# Altium footprint library KF7620.PcbLib: 14 footprints
Each footprint in its own frame and in the unit in brackets; x right, y up, seen from the top. Pads: shape width x height; smd on the part's side, far side on the other; paste and mask are expansions set on the pad; w line width, h text height; cw(c..) or ccw(c..) is an arc to the next point about the centre after c.
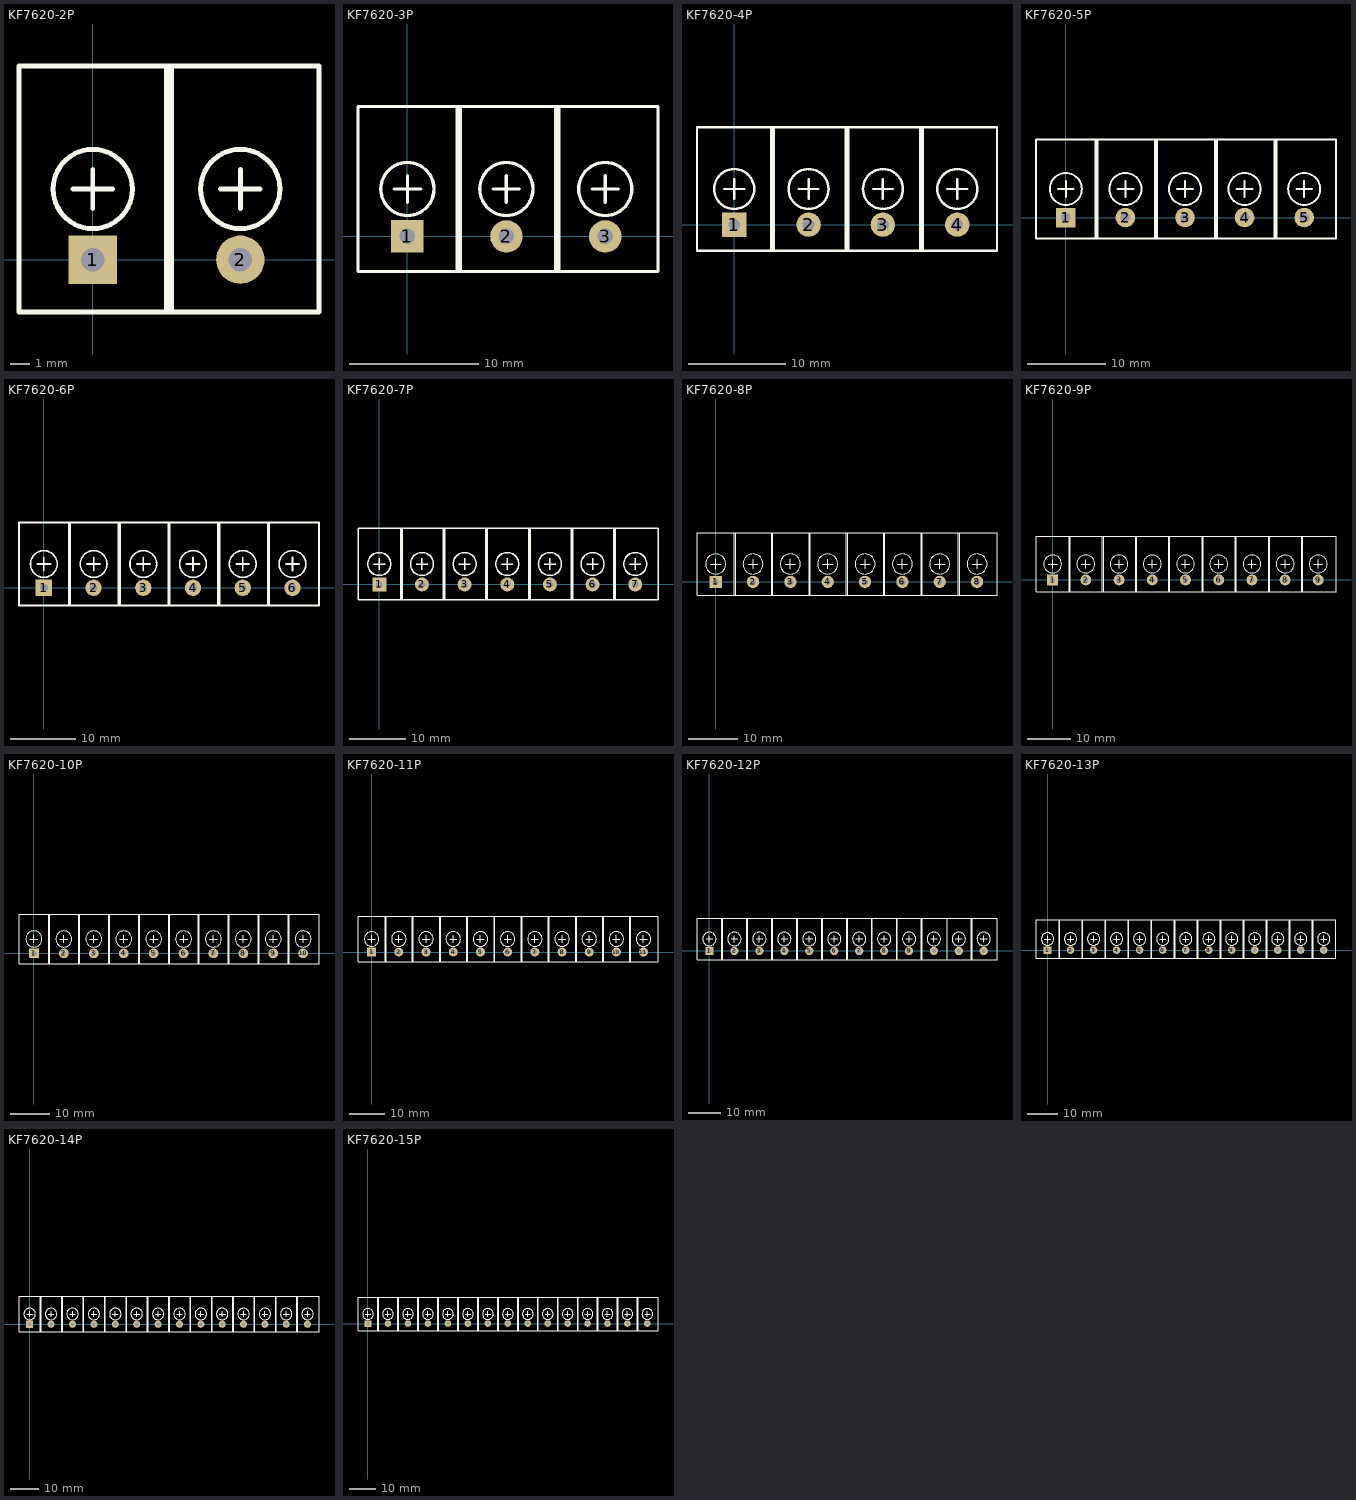
[diagram p0: the footprints below, top view; thin cyan lines are the x and y axes]

## KF7620-2P [mm] "15.2*12*12mm(长宽高)"
pads (2):
  rect 2.5x2.5 hole 1.2: 1(0,0)
  round 2.5 hole 1.2: 2(7.62,0)
Top Overlay:
  circle w0.254: c7.62,3.65 r2.048
  circle w0.254: c0,3.65 r2.048
  lines w0.254: -1.016,3.65 1.016,3.65 ; 0,2.634 0,4.666 ; 3.81,-2.7 3.81,10 ; 4.064,10 4.064,-2.7 4.318,-2.7 ; 6.604,3.65 8.636,3.65 ; 7.62,2.634 7.62,4.666 ; -3.81,-2.7 -3.81,10 11.684,10 11.684,-2.7 -3.81,-2.7
3D body "KF7620.STEP": height 12.45, standoff -3.45, extent -3.81,-2.517 4.51,9.883
3D body "KF7620.STEP": height 12.45, standoff -3.45, extent 3.81,-2.517 12.13,9.883

## KF7620-3P [mm] "22.8*12*12mm(长宽高)"
pads (3):
  rect 2.5x2.5 hole 1.2: 1(0,0)
  round 2.5 hole 1.2: 2(7.62,0) 3(15.24,0)
Top Overlay:
  circle w0.254: c0,3.65 r2.048
  circle w0.254: c7.62,3.65 r2.048
  circle w0.254: c15.24,3.65 r2.048
  lines w0.254: -1.016,3.65 1.016,3.65 ; 0,2.634 0,4.666 ; 3.81,-2.7 3.81,10 ; 4.064,10 4.064,-2.7 4.318,-2.7 ; 6.604,3.65 8.636,3.65 ; 7.62,2.634 7.62,4.666 ; 11.43,-2.7 11.43,10 ; 14.224,3.65 16.256,3.65 ; 15.24,2.634 15.24,4.666 ; 11.684,-2.7 11.684,10 ; 11.684,-2.7 -3.81,-2.7 -3.81,10 11.684,10 ; 11.684,-2.7 19.304,-2.7 19.304,10 11.684,10
3D body "KF7620.STEP": height 12.45, standoff -3.45, extent 11.43,-2.517 19.75,9.883
3D body "KF7620.STEP": height 12.45, standoff -3.45, extent 3.81,-2.517 12.13,9.883
3D body "KF7620.STEP": height 12.45, standoff -3.45, extent -3.81,-2.517 4.51,9.883

## KF7620-4P [mm] "30.5*12*12mm(长宽高)"
pads (4):
  rect 2.5x2.5 hole 1.2: 1(0,0)
  round 2.5 hole 1.2: 2(7.62,0) 3(15.24,0) 4(22.86,0)
Top Overlay:
  circle w0.254: c22.86,3.65 r2.048
  circle w0.254: c15.24,3.65 r2.048
  circle w0.254: c0,3.65 r2.048
  circle w0.254: c7.62,3.65 r2.048
  lines w0.254: -1.016,3.65 1.016,3.65 ; 0,2.634 0,4.666 ; 3.81,-2.7 3.81,10 ; 4.064,10 4.064,-2.7 4.318,-2.7 ; 6.604,3.65 8.636,3.65 ; 7.62,2.634 7.62,4.666 ; 14.224,3.65 16.256,3.65 ; 15.24,2.634 15.24,4.666 ; 19.05,-2.7 19.05,10 ; 19.304,10 19.304,-2.7 19.558,-2.7 ; 21.844,3.65 23.876,3.65 ; 22.86,2.634 22.86,4.666 ; -3.81,-2.7 11.684,-2.7 11.684,10 -3.81,10 -3.81,-2.7 ; 11.43,-2.7 11.43,10 26.924,10 26.924,-2.7 11.43,-2.7
3D body "KF7620.STEP": height 12.45, standoff -3.45, extent 19.05,-2.517 27.37,9.883
3D body "KF7620.STEP": height 12.45, standoff -3.45, extent 11.43,-2.517 19.75,9.883
3D body "KF7620.STEP": height 12.45, standoff -3.45, extent 3.81,-2.517 12.13,9.883
3D body "KF7620.STEP": height 12.45, standoff -3.45, extent -3.81,-2.517 4.51,9.883

## KF7620-5P [mm] "38.1*12*12mm(长宽高)"
pads (5):
  rect 2.5x2.5 hole 1.2: 1(0,0)
  round 2.5 hole 1.2: 2(7.62,0) 3(15.24,0) 4(22.86,0) 5(30.48,0)
Top Overlay:
  circle w0.254: c22.86,3.65 r2.048
  circle w0.254: c30.48,3.65 r2.048
  circle w0.254: c0,3.65 r2.048
  circle w0.254: c7.62,3.65 r2.048
  circle w0.254: c15.24,3.65 r2.048
  lines w0.254: -1.016,3.65 1.016,3.65 ; 0,2.634 0,4.666 ; 3.81,-2.7 3.81,10 ; 4.064,10 4.064,-2.7 4.318,-2.7 ; 6.604,3.65 8.636,3.65 ; 7.62,2.634 7.62,4.666 ; 11.43,-2.7 11.43,10 ; 14.224,3.65 16.256,3.65 ; 15.24,2.634 15.24,4.666 ; 21.844,3.65 23.876,3.65 ; 22.86,2.634 22.86,4.666 ; 26.67,-2.7 26.67,10 ; 26.924,10 26.924,-2.7 27.178,-2.7 ; 29.464,3.65 31.496,3.65 ; 30.48,2.634 30.48,4.666 ; 11.684,-2.7 11.684,10 ; 11.684,-2.7 -3.81,-2.7 -3.81,10 11.684,10 ; 11.684,-2.7 19.304,-2.7 19.304,10 11.684,10 ; 19.05,-2.7 34.544,-2.7 34.544,10 19.05,10 19.05,-2.7
3D body "KF7620.STEP": height 12.45, standoff -3.45, extent 19.05,-2.517 27.37,9.883
3D body "KF7620.STEP": height 12.45, standoff -3.45, extent 26.67,-2.517 34.99,9.883
3D body "KF7620.STEP": height 12.45, standoff -3.45, extent 11.43,-2.517 19.75,9.883
3D body "KF7620.STEP": height 12.45, standoff -3.45, extent 3.81,-2.517 12.13,9.883
3D body "KF7620.STEP": height 12.45, standoff -3.45, extent -3.81,-2.517 4.51,9.883

## KF7620-6P [mm] "45.7*12*12mm(长宽高)"
pads (6):
  rect 2.5x2.5 hole 1.2: 1(0,0)
  round 2.5 hole 1.2: 2(7.62,0) 3(15.24,0) 4(22.86,0) 5(30.48,0) 6(38.1,0)
Top Overlay:
  circle w0.254: c30.48,3.65 r2.048
  circle w0.254: c38.1,3.65 r2.048
  circle w0.254: c7.62,3.65 r2.048
  circle w0.254: c0,3.65 r2.048
  circle w0.254: c15.24,3.65 r2.048
  circle w0.254: c22.86,3.65 r2.048
  lines w0.254: -1.016,3.65 1.016,3.65 ; 0,2.634 0,4.666 ; 3.81,-2.7 3.81,10 ; 4.064,10 4.064,-2.7 4.318,-2.7 ; 6.604,3.65 8.636,3.65 ; 7.62,2.634 7.62,4.666 ; 14.224,3.65 16.256,3.65 ; 15.24,2.634 15.24,4.666 ; 19.05,-2.7 19.05,10 ; 19.304,10 19.304,-2.7 19.558,-2.7 ; 21.844,3.65 23.876,3.65 ; 22.86,2.634 22.86,4.666 ; 29.464,3.65 31.496,3.65 ; 30.48,2.634 30.48,4.666 ; 34.29,-2.7 34.29,10 ; 34.544,10 34.544,-2.7 34.798,-2.7 ; 37.084,3.65 39.116,3.65 ; 38.1,2.634 38.1,4.666 ; -3.81,-2.7 -3.81,10 11.684,10 11.684,-2.7 -3.81,-2.7 ; 11.43,-2.7 26.924,-2.7 26.924,10 11.43,10 11.43,-2.7 ; 26.67,-2.7 42.164,-2.7 42.164,10 26.67,10 26.67,-2.7
3D body "KF7620.STEP": height 12.45, standoff -3.45, extent 19.05,-2.517 27.37,9.883
3D body "KF7620.STEP": height 12.45, standoff -3.45, extent 26.67,-2.517 34.99,9.883
3D body "KF7620.STEP": height 12.45, standoff -3.45, extent 34.29,-2.517 42.61,9.883
3D body "KF7620.STEP": height 12.45, standoff -3.45, extent 11.43,-2.517 19.75,9.883
3D body "KF7620.STEP": height 12.45, standoff -3.45, extent 3.81,-2.517 12.13,9.883
3D body "KF7620.STEP": height 12.45, standoff -3.45, extent -3.81,-2.517 4.51,9.883

## KF7620-7P [mm] "45.7*12*12mm(长宽高)"
pads (7):
  rect 2.5x2.5 hole 1.2: 1(0,0)
  round 2.5 hole 1.2: 2(7.62,0) 3(15.24,0) 4(22.86,0) 5(30.48,0) 6(38.1,0) 7(45.72,0)
Top Overlay:
  circle w0.254: c45.72,3.65 r2.048
  circle w0.254: c22.86,3.65 r2.048
  circle w0.254: c15.24,3.65 r2.048
  circle w0.254: c0,3.65 r2.048
  circle w0.254: c7.62,3.65 r2.048
  circle w0.254: c38.1,3.65 r2.048
  circle w0.254: c30.48,3.65 r2.048
  lines w0.254: -1.016,3.65 1.016,3.65 ; 0,2.634 0,4.666 ; 3.81,-2.7 3.81,10 ; 4.064,10 4.064,-2.7 4.318,-2.7 ; 6.604,3.65 8.636,3.65 ; 7.62,2.634 7.62,4.666 ; 14.224,3.65 16.256,3.65 ; 15.24,2.634 15.24,4.666 ; 19.05,-2.7 19.05,10 ; 19.304,10 19.304,-2.7 19.558,-2.7 ; 21.844,3.65 23.876,3.65 ; 22.86,2.634 22.86,4.666 ; 29.464,3.65 31.496,3.65 ; 30.48,2.634 30.48,4.666 ; 34.29,-2.7 34.29,10 ; 34.544,10 34.544,-2.7 34.798,-2.7 ; 37.084,3.65 39.116,3.65 ; 38.1,2.634 38.1,4.666 ; 41.91,-2.7 41.91,10 ; 44.704,3.65 46.736,3.65 ; 45.72,2.634 45.72,4.666 ; 42.164,-2.7 49.784,-2.7 49.784,10 42.164,10 ; 42.164,-2.7 42.164,10 ; 42.164,-2.7 42.164,10 ; 42.164,-2.7 26.67,-2.7 26.67,10 42.164,10 ; -3.81,-2.7 11.684,-2.7 11.684,10 -3.81,10 -3.81,-2.7 ; 11.43,-2.7 11.43,10 26.924,10 26.924,-2.7 11.43,-2.7
3D body "KF7620.STEP": height 12.45, standoff -3.45, extent 41.91,-2.517 50.23,9.883
3D body "KF7620.STEP": height 12.45, standoff -3.45, extent 19.05,-2.517 27.37,9.883
3D body "KF7620.STEP": height 12.45, standoff -3.45, extent 26.67,-2.517 34.99,9.883
3D body "KF7620.STEP": height 12.45, standoff -3.45, extent 34.29,-2.517 42.61,9.883
3D body "KF7620.STEP": height 12.45, standoff -3.45, extent 11.43,-2.517 19.75,9.883
3D body "KF7620.STEP": height 12.45, standoff -3.45, extent 3.81,-2.517 12.13,9.883
3D body "KF7620.STEP": height 12.45, standoff -3.45, extent -3.81,-2.517 4.51,9.883

## KF7620-8P [mm] "61*12*12mm(长宽高)"
pads (8):
  rect 2.5x2.5 hole 1.2: 1(0,0)
  round 2.5 hole 1.2: 2(7.62,0) 3(15.24,0) 4(22.86,0) 5(30.48,0) 6(38.1,0) 7(45.72,0) 8(53.34,0)
Top Overlay:
  circle w0.254: c22.86,3.65 r2.048
  circle w0.254: c15.24,3.65 r2.048
  circle w0.254: c0,3.65 r2.048
  circle w0.254: c7.62,3.65 r2.048
  circle w0.254: c38.1,3.65 r2.048
  circle w0.254: c30.48,3.65 r2.048
  circle w0.254: c45.72,3.65 r2.048
  circle w0.254: c53.34,3.65 r2.048
  lines w0.254: -1.016,3.65 1.016,3.65 ; 0,2.634 0,4.666 ; 3.81,-2.7 3.81,10 ; 4.064,10 4.064,-2.7 4.318,-2.7 ; 6.604,3.65 8.636,3.65 ; 7.62,2.634 7.62,4.666 ; 14.224,3.65 16.256,3.65 ; 15.24,2.634 15.24,4.666 ; 19.05,-2.7 19.05,10 ; 19.304,10 19.304,-2.7 19.558,-2.7 ; 21.844,3.65 23.876,3.65 ; 22.86,2.634 22.86,4.666 ; 29.464,3.65 31.496,3.65 ; 30.48,2.634 30.48,4.666 ; 34.29,-2.7 34.29,10 ; 34.544,10 34.544,-2.7 34.798,-2.7 ; 37.084,3.65 39.116,3.65 ; 38.1,2.634 38.1,4.666 ; 44.704,3.65 46.736,3.65 ; 45.72,2.634 45.72,4.666 ; 49.53,-2.7 49.53,10 ; 49.784,10 49.784,-2.7 50.038,-2.7 ; 52.324,3.65 54.356,3.65 ; 53.34,2.634 53.34,4.666 ; -3.81,-2.7 11.684,-2.7 11.684,10 -3.81,10 -3.81,-2.7 ; 11.43,-2.7 11.43,10 26.924,10 26.924,-2.7 11.43,-2.7 ; 26.67,-2.7 26.67,10 42.164,10 42.164,-2.7 26.67,-2.7 ; 41.91,-2.7 57.404,-2.7 57.404,10 41.91,10 41.91,-2.7
3D body "KF7620.STEP": height 12.45, standoff -3.45, extent 41.91,-2.517 50.23,9.883
3D body "KF7620.STEP": height 12.45, standoff -3.45, extent 49.53,-2.517 57.85,9.883
3D body "KF7620.STEP": height 12.45, standoff -3.45, extent 19.05,-2.517 27.37,9.883
3D body "KF7620.STEP": height 12.45, standoff -3.45, extent 26.67,-2.517 34.99,9.883
3D body "KF7620.STEP": height 12.45, standoff -3.45, extent 34.29,-2.517 42.61,9.883
3D body "KF7620.STEP": height 12.45, standoff -3.45, extent 11.43,-2.517 19.75,9.883
3D body "KF7620.STEP": height 12.45, standoff -3.45, extent 3.81,-2.517 12.13,9.883
3D body "KF7620.STEP": height 12.45, standoff -3.45, extent -3.81,-2.517 4.51,9.883

## KF7620-9P [mm] "61*12*12mm(长宽高)"
pads (9):
  rect 2.5x2.5 hole 1.2: 1(0,0)
  round 2.5 hole 1.2: 2(7.62,0) 3(15.24,0) 4(22.86,0) 5(30.48,0) 6(38.1,0) 7(45.72,0) 8(53.34,0) 9(60.94,0)
Top Overlay:
  circle w0.254: c22.86,3.65 r2.048
  circle w0.254: c15.24,3.65 r2.048
  circle w0.254: c0,3.65 r2.048
  circle w0.254: c7.62,3.65 r2.048
  circle w0.254: c38.1,3.65 r2.048
  circle w0.254: c30.48,3.65 r2.048
  circle w0.254: c45.72,3.65 r2.048
  circle w0.254: c53.34,3.65 r2.048
  circle w0.254: c60.94,3.65 r2.048
  lines w0.254: -1.016,3.65 1.016,3.65 ; 0,2.634 0,4.666 ; 3.81,-2.7 3.81,10 ; 4.064,10 4.064,-2.7 4.318,-2.7 ; 6.604,3.65 8.636,3.65 ; 7.62,2.634 7.62,4.666 ; 14.224,3.65 16.256,3.65 ; 15.24,2.634 15.24,4.666 ; 19.05,-2.7 19.05,10 ; 19.304,10 19.304,-2.7 19.558,-2.7 ; 21.844,3.65 23.876,3.65 ; 22.86,2.634 22.86,4.666 ; 29.464,3.65 31.496,3.65 ; 30.48,2.634 30.48,4.666 ; 34.29,-2.7 34.29,10 ; 34.544,10 34.544,-2.7 34.798,-2.7 ; 37.084,3.65 39.116,3.65 ; 38.1,2.634 38.1,4.666 ; 44.704,3.65 46.736,3.65 ; 45.72,2.634 45.72,4.666 ; 49.53,-2.7 49.53,10 ; 49.784,10 49.784,-2.7 50.038,-2.7 ; 52.324,3.65 54.356,3.65 ; 53.34,2.634 53.34,4.666 ; 57.13,-2.7 57.13,10 ; 57.638,-2.7 57.384,-2.7 ; 59.924,3.65 61.956,3.65 ; 60.94,2.634 60.94,4.666 ; 57.384,-2.7 57.384,10 65.004,10 65.004,-2.7 57.384,-2.7 ; 57.404,-2.7 57.404,10 ; 57.404,-2.7 41.91,-2.7 41.91,10 57.404,10 ; 57.404,-2.7 57.404,10 ; 57.404,-2.7 57.404,10 ; -3.81,-2.7 11.684,-2.7 11.684,10 -3.81,10 -3.81,-2.7 ; 11.43,-2.7 11.43,10 26.924,10 26.924,-2.7 11.43,-2.7 ; 26.67,-2.7 26.67,10 42.164,10 42.164,-2.7 26.67,-2.7
3D body "KF7620.STEP": height 12.45, standoff -3.45, extent 41.91,-2.517 50.23,9.883
3D body "KF7620.STEP": height 12.45, standoff -3.45, extent 49.53,-2.517 57.85,9.883
3D body "KF7620.STEP": height 12.45, standoff -3.45, extent 57.15,-2.517 65.47,9.883
3D body "KF7620.STEP": height 12.45, standoff -3.45, extent 19.05,-2.517 27.37,9.883
3D body "KF7620.STEP": height 12.45, standoff -3.45, extent 26.67,-2.517 34.99,9.883
3D body "KF7620.STEP": height 12.45, standoff -3.45, extent 34.29,-2.517 42.61,9.883
3D body "KF7620.STEP": height 12.45, standoff -3.45, extent 11.43,-2.517 19.75,9.883
3D body "KF7620.STEP": height 12.45, standoff -3.45, extent 3.81,-2.517 12.13,9.883
3D body "KF7620.STEP": height 12.45, standoff -3.45, extent -3.81,-2.517 4.51,9.883

## KF7620-10P [mm] "61*12*12mm(长宽高)"
pads (10):
  rect 2.5x2.5 hole 1.2: 1(0,0)
  round 2.5 hole 1.2: 2(7.62,0) 3(15.24,0) 4(22.86,0) 5(30.48,0) 6(38.1,0) 7(45.72,0) 8(53.34,0) 9(60.94,0) 10(68.54,0)
Top Overlay:
  circle w0.254: c60.94,3.65 r2.048
  circle w0.254: c53.34,3.65 r2.048
  circle w0.254: c45.72,3.65 r2.048
  circle w0.254: c30.48,3.65 r2.048
  circle w0.254: c38.1,3.65 r2.048
  circle w0.254: c7.62,3.65 r2.048
  circle w0.254: c0,3.65 r2.048
  circle w0.254: c15.24,3.65 r2.048
  circle w0.254: c22.86,3.65 r2.048
  circle w0.254: c68.54,3.65 r2.048
  lines w0.254: -1.016,3.65 1.016,3.65 ; 0,2.634 0,4.666 ; 3.81,-2.7 3.81,10 ; 4.064,10 4.064,-2.7 4.318,-2.7 ; 6.604,3.65 8.636,3.65 ; 7.62,2.634 7.62,4.666 ; 14.224,3.65 16.256,3.65 ; 15.24,2.634 15.24,4.666 ; 19.05,-2.7 19.05,10 ; 19.304,10 19.304,-2.7 19.558,-2.7 ; 21.844,3.65 23.876,3.65 ; 22.86,2.634 22.86,4.666 ; 29.464,3.65 31.496,3.65 ; 30.48,2.634 30.48,4.666 ; 34.29,-2.7 34.29,10 ; 34.544,10 34.544,-2.7 34.798,-2.7 ; 37.084,3.65 39.116,3.65 ; 38.1,2.634 38.1,4.666 ; 44.704,3.65 46.736,3.65 ; 45.72,2.634 45.72,4.666 ; 49.53,-2.7 49.53,10 ; 49.784,10 49.784,-2.7 50.038,-2.7 ; 52.324,3.65 54.356,3.65 ; 53.34,2.634 53.34,4.666 ; 57.13,-2.7 57.13,10 ; 57.638,-2.7 57.384,-2.7 ; 59.924,3.65 61.956,3.65 ; 60.94,2.634 60.94,4.666 ; 64.73,-2.7 64.73,10 ; 65.238,-2.7 64.984,-2.7 ; 67.524,3.65 69.556,3.65 ; 68.54,2.634 68.54,4.666 ; 57.384,-2.7 65.004,-2.7 ; 57.384,-2.7 57.384,10 65.004,10 ; 57.404,-2.7 57.404,10 ; 57.404,-2.7 57.404,10 ; 57.404,-2.7 41.91,-2.7 41.91,10 57.404,10 ; 57.404,-2.7 57.404,10 ; 64.984,-2.7 64.984,10 72.604,10 72.604,-2.7 64.984,-2.7 ; 65.004,-2.7 65.004,10 ; 65.004,-2.7 65.004,10 ; 65.004,-2.7 65.004,10 ; 65.004,-2.7 65.004,10 ; -3.81,-2.7 -3.81,10 11.684,10 11.684,-2.7 -3.81,-2.7 ; 11.43,-2.7 26.924,-2.7 26.924,10 11.43,10 11.43,-2.7 ; 26.67,-2.7 42.164,-2.7 42.164,10 26.67,10 26.67,-2.7
3D body "KF7620.STEP": height 12.45, standoff -3.45, extent 64.73,-2.517 73.05,9.883
3D body "KF7620.STEP": height 12.45, standoff -3.45, extent 41.91,-2.517 50.23,9.883
3D body "KF7620.STEP": height 12.45, standoff -3.45, extent 49.53,-2.517 57.85,9.883
3D body "KF7620.STEP": height 12.45, standoff -3.45, extent 57.15,-2.517 65.47,9.883
3D body "KF7620.STEP": height 12.45, standoff -3.45, extent 19.05,-2.517 27.37,9.883
3D body "KF7620.STEP": height 12.45, standoff -3.45, extent 26.67,-2.517 34.99,9.883
3D body "KF7620.STEP": height 12.45, standoff -3.45, extent 34.29,-2.517 42.61,9.883
3D body "KF7620.STEP": height 12.45, standoff -3.45, extent 11.43,-2.517 19.75,9.883
3D body "KF7620.STEP": height 12.45, standoff -3.45, extent 3.81,-2.517 12.13,9.883
3D body "KF7620.STEP": height 12.45, standoff -3.45, extent -3.81,-2.517 4.51,9.883

## KF7620-11P [mm] "61*12*12mm(长宽高)"
pads (11):
  rect 2.5x2.5 hole 1.2: 1(0,0)
  round 2.5 hole 1.2: 2(7.62,0) 3(15.24,0) 4(22.86,0) 5(30.48,0) 6(38.1,0) 7(45.72,0) 8(53.34,0) 9(60.94,0) 10(68.54,0) 11(76.14,0)
Top Overlay:
  circle w0.254: c76.14,3.65 r2.048
  circle w0.254: c60.94,3.65 r2.048
  circle w0.254: c53.34,3.65 r2.048
  circle w0.254: c45.72,3.65 r2.048
  circle w0.254: c30.48,3.65 r2.048
  circle w0.254: c38.1,3.65 r2.048
  circle w0.254: c7.62,3.65 r2.048
  circle w0.254: c0,3.65 r2.048
  circle w0.254: c15.24,3.65 r2.048
  circle w0.254: c22.86,3.65 r2.048
  circle w0.254: c68.54,3.65 r2.048
  lines w0.254: -1.016,3.65 1.016,3.65 ; 0,2.634 0,4.666 ; 3.81,-2.7 3.81,10 ; 4.064,10 4.064,-2.7 4.318,-2.7 ; 6.604,3.65 8.636,3.65 ; 7.62,2.634 7.62,4.666 ; 14.224,3.65 16.256,3.65 ; 15.24,2.634 15.24,4.666 ; 19.05,-2.7 19.05,10 ; 19.304,10 19.304,-2.7 19.558,-2.7 ; 21.844,3.65 23.876,3.65 ; 22.86,2.634 22.86,4.666 ; 29.464,3.65 31.496,3.65 ; 30.48,2.634 30.48,4.666 ; 34.29,-2.7 34.29,10 ; 34.544,10 34.544,-2.7 34.798,-2.7 ; 37.084,3.65 39.116,3.65 ; 38.1,2.634 38.1,4.666 ; 44.704,3.65 46.736,3.65 ; 45.72,2.634 45.72,4.666 ; 49.53,-2.7 49.53,10 ; 49.784,10 49.784,-2.7 50.038,-2.7 ; 52.324,3.65 54.356,3.65 ; 53.34,2.634 53.34,4.666 ; 57.13,-2.7 57.13,10 ; 57.638,-2.7 57.384,-2.7 ; 59.924,3.65 61.956,3.65 ; 60.94,2.634 60.94,4.666 ; 64.73,-2.7 64.73,10 ; 65.238,-2.7 64.984,-2.7 ; 67.524,3.65 69.556,3.65 ; 68.54,2.634 68.54,4.666 ; 72.33,-2.7 72.33,10 ; 72.838,-2.7 72.584,-2.7 ; 75.124,3.65 77.156,3.65 ; 76.14,2.634 76.14,4.666 ; 57.384,-2.7 65.004,-2.7 ; 57.384,-2.7 57.384,10 65.004,10 ; 57.404,-2.7 57.404,10 ; 57.404,-2.7 57.404,10 ; 57.404,-2.7 41.91,-2.7 41.91,10 57.404,10 ; 57.404,-2.7 57.404,10 ; 64.984,-2.7 64.984,10 72.604,10 ; 64.984,-2.7 72.604,-2.7 ; 65.004,-2.7 65.004,10 ; 65.004,-2.7 65.004,10 ; 65.004,-2.7 65.004,10 ; 65.004,-2.7 65.004,10 ; 72.584,-2.7 80.204,-2.7 80.204,10 72.584,10 72.584,-2.7 ; 72.604,-2.7 72.604,10 ; 72.604,-2.7 72.604,10 ; 72.604,-2.7 72.604,10 ; 72.604,-2.7 72.604,10 ; 72.604,-2.7 72.604,10 ; -3.81,-2.7 -3.81,10 11.684,10 11.684,-2.7 -3.81,-2.7 ; 11.43,-2.7 26.924,-2.7 26.924,10 11.43,10 11.43,-2.7 ; 26.67,-2.7 42.164,-2.7 42.164,10 26.67,10 26.67,-2.7
3D body "KF7620.STEP": height 12.45, standoff -3.45, extent 64.73,-2.517 73.05,9.883
3D body "KF7620.STEP": height 12.45, standoff -3.45, extent 72.35,-2.517 80.67,9.883
3D body "KF7620.STEP": height 12.45, standoff -3.45, extent 41.91,-2.517 50.23,9.883
3D body "KF7620.STEP": height 12.45, standoff -3.45, extent 49.53,-2.517 57.85,9.883
3D body "KF7620.STEP": height 12.45, standoff -3.45, extent 57.15,-2.517 65.47,9.883
3D body "KF7620.STEP": height 12.45, standoff -3.45, extent 19.05,-2.517 27.37,9.883
3D body "KF7620.STEP": height 12.45, standoff -3.45, extent 26.67,-2.517 34.99,9.883
3D body "KF7620.STEP": height 12.45, standoff -3.45, extent 34.29,-2.517 42.61,9.883
3D body "KF7620.STEP": height 12.45, standoff -3.45, extent 11.43,-2.517 19.75,9.883
3D body "KF7620.STEP": height 12.45, standoff -3.45, extent 3.81,-2.517 12.13,9.883
3D body "KF7620.STEP": height 12.45, standoff -3.45, extent -3.81,-2.517 4.51,9.883

## KF7620-12P [mm] "61*12*12mm(长宽高)"
pads (12):
  rect 2.5x2.5 hole 1.2: 1(0,0)
  round 2.5 hole 1.2: 2(7.62,0) 3(15.24,0) 4(22.86,0) 5(30.48,0) 6(38.1,0) 7(45.72,0) 8(53.34,0) 9(60.94,0) 10(68.54,0) 11(76.14,0) 12(83.74,0)
Top Overlay:
  circle w0.254: c76.14,3.65 r2.048
  circle w0.254: c60.94,3.65 r2.048
  circle w0.254: c53.34,3.65 r2.048
  circle w0.254: c45.72,3.65 r2.048
  circle w0.254: c30.48,3.65 r2.048
  circle w0.254: c38.1,3.65 r2.048
  circle w0.254: c7.62,3.65 r2.048
  circle w0.254: c0,3.65 r2.048
  circle w0.254: c15.24,3.65 r2.048
  circle w0.254: c22.86,3.65 r2.048
  circle w0.254: c68.54,3.65 r2.048
  circle w0.254: c83.74,3.65 r2.048
  lines w0.254: -1.016,3.65 1.016,3.65 ; 0,2.634 0,4.666 ; 3.81,-2.7 3.81,10 ; 4.064,10 4.064,-2.7 4.318,-2.7 ; 6.604,3.65 8.636,3.65 ; 7.62,2.634 7.62,4.666 ; 14.224,3.65 16.256,3.65 ; 15.24,2.634 15.24,4.666 ; 19.05,-2.7 19.05,10 ; 19.304,10 19.304,-2.7 19.558,-2.7 ; 21.844,3.65 23.876,3.65 ; 22.86,2.634 22.86,4.666 ; 29.464,3.65 31.496,3.65 ; 30.48,2.634 30.48,4.666 ; 34.29,-2.7 34.29,10 ; 34.544,10 34.544,-2.7 34.798,-2.7 ; 37.084,3.65 39.116,3.65 ; 38.1,2.634 38.1,4.666 ; 44.704,3.65 46.736,3.65 ; 45.72,2.634 45.72,4.666 ; 49.53,-2.7 49.53,10 ; 49.784,10 49.784,-2.7 50.038,-2.7 ; 52.324,3.65 54.356,3.65 ; 53.34,2.634 53.34,4.666 ; 57.13,-2.7 57.13,10 ; 57.638,-2.7 57.384,-2.7 ; 59.924,3.65 61.956,3.65 ; 60.94,2.634 60.94,4.666 ; 64.73,-2.7 64.73,10 ; 65.238,-2.7 64.984,-2.7 ; 67.524,3.65 69.556,3.65 ; 68.54,2.634 68.54,4.666 ; 72.838,-2.7 72.584,-2.7 ; 75.124,3.65 77.156,3.65 ; 76.14,2.634 76.14,4.666 ; 79.93,-2.7 79.93,10 ; 80.438,-2.7 80.184,-2.7 ; 82.724,3.65 84.756,3.65 ; 83.74,2.634 83.74,4.666 ; 57.384,-2.7 65.004,-2.7 ; 57.384,-2.7 57.384,10 65.004,10 ; 57.404,-2.7 57.404,10 ; 57.404,-2.7 57.404,10 ; 57.404,-2.7 41.91,-2.7 41.91,10 57.404,10 ; 57.404,-2.7 57.404,10 ; 64.984,-2.7 64.984,10 72.604,10 ; 64.984,-2.7 72.604,-2.7 ; 65.004,-2.7 65.004,10 ; 65.004,-2.7 65.004,10 ; 65.004,-2.7 65.004,10 ; 65.004,-2.7 65.004,10 ; 72.584,-2.7 80.204,-2.7 ; 72.584,-2.7 72.584,10 80.204,10 ; 72.604,-2.7 72.604,10 ; 72.604,-2.7 72.604,10 ; 72.604,-2.7 72.604,10 ; 72.604,-2.7 72.604,10 ; 72.604,-2.7 72.604,10 ; 80.184,-2.7 80.184,10 87.804,10 87.804,-2.7 80.184,-2.7 ; 80.204,-2.7 80.204,10 ; 80.204,-2.7 80.204,10 ; 80.204,-2.7 80.204,10 ; 80.204,-2.7 80.204,10 ; 80.204,-2.7 80.204,10 ; 80.204,-2.7 80.204,10 ; -3.81,-2.7 -3.81,10 11.684,10 11.684,-2.7 -3.81,-2.7 ; 11.43,-2.7 26.924,-2.7 26.924,10 11.43,10 11.43,-2.7 ; 26.67,-2.7 42.164,-2.7 42.164,10 26.67,10 26.67,-2.7
3D body "KF7620.STEP": height 12.45, standoff -3.45, extent 64.73,-2.517 73.05,9.883
3D body "KF7620.STEP": height 12.45, standoff -3.45, extent 72.35,-2.517 80.67,9.883
3D body "KF7620.STEP": height 12.45, standoff -3.45, extent 79.97,-2.517 88.29,9.883
3D body "KF7620.STEP": height 12.45, standoff -3.45, extent 41.91,-2.517 50.23,9.883
3D body "KF7620.STEP": height 12.45, standoff -3.45, extent 49.53,-2.517 57.85,9.883
3D body "KF7620.STEP": height 12.45, standoff -3.45, extent 57.15,-2.517 65.47,9.883
3D body "KF7620.STEP": height 12.45, standoff -3.45, extent 19.05,-2.517 27.37,9.883
3D body "KF7620.STEP": height 12.45, standoff -3.45, extent 26.67,-2.517 34.99,9.883
3D body "KF7620.STEP": height 12.45, standoff -3.45, extent 34.29,-2.517 42.61,9.883
3D body "KF7620.STEP": height 12.45, standoff -3.45, extent 11.43,-2.517 19.75,9.883
3D body "KF7620.STEP": height 12.45, standoff -3.45, extent 3.81,-2.517 12.13,9.883
3D body "KF7620.STEP": height 12.45, standoff -3.45, extent -3.81,-2.517 4.51,9.883

## KF7620-13P [mm] "61*12*12mm(长宽高)"
pads (13):
  rect 2.5x2.5 hole 1.2: 1(0,0)
  round 2.5 hole 1.2: 2(7.62,0) 3(15.24,0) 4(22.86,0) 5(30.48,0) 6(38.1,0) 7(45.72,0) 8(53.34,0) 9(60.94,0) 10(68.54,0) 11(76.14,0) 12(83.74,0) 13(91.34,0)
Top Overlay:
  circle w0.254: c91.34,3.65 r2.048
  circle w0.254: c83.74,3.65 r2.048
  circle w0.254: c76.14,3.65 r2.048
  circle w0.254: c68.54,3.65 r2.048
  circle w0.254: c60.94,3.65 r2.048
  circle w0.254: c53.34,3.65 r2.048
  circle w0.254: c45.72,3.65 r2.048
  circle w0.254: c30.48,3.65 r2.048
  circle w0.254: c38.1,3.65 r2.048
  circle w0.254: c7.62,3.65 r2.048
  circle w0.254: c0,3.65 r2.048
  circle w0.254: c15.24,3.65 r2.048
  circle w0.254: c22.86,3.65 r2.048
  lines w0.254: -1.016,3.65 1.016,3.65 ; 0,2.634 0,4.666 ; 3.81,-2.7 3.81,10 ; 4.064,10 4.064,-2.7 4.318,-2.7 ; 6.604,3.65 8.636,3.65 ; 7.62,2.634 7.62,4.666 ; 14.224,3.65 16.256,3.65 ; 15.24,2.634 15.24,4.666 ; 19.05,-2.7 19.05,10 ; 19.304,10 19.304,-2.7 19.558,-2.7 ; 21.844,3.65 23.876,3.65 ; 22.86,2.634 22.86,4.666 ; 29.464,3.65 31.496,3.65 ; 30.48,2.634 30.48,4.666 ; 34.29,-2.7 34.29,10 ; 34.544,10 34.544,-2.7 34.798,-2.7 ; 37.084,3.65 39.116,3.65 ; 38.1,2.634 38.1,4.666 ; 44.704,3.65 46.736,3.65 ; 45.72,2.634 45.72,4.666 ; 49.53,-2.7 49.53,10 ; 49.784,10 49.784,-2.7 50.038,-2.7 ; 52.324,3.65 54.356,3.65 ; 53.34,2.634 53.34,4.666 ; 57.13,-2.7 57.13,10 ; 57.638,-2.7 57.384,-2.7 ; 59.924,3.65 61.956,3.65 ; 60.94,2.634 60.94,4.666 ; 64.73,-2.7 64.73,10 ; 65.238,-2.7 64.984,-2.7 ; 67.524,3.65 69.556,3.65 ; 68.54,2.634 68.54,4.666 ; 72.33,-2.7 72.33,10 ; 72.838,-2.7 72.584,-2.7 ; 75.124,3.65 77.156,3.65 ; 76.14,2.634 76.14,4.666 ; 79.93,-2.7 79.93,10 ; 80.438,-2.7 80.184,-2.7 ; 82.724,3.65 84.756,3.65 ; 83.74,2.634 83.74,4.666 ; 87.53,-2.7 87.53,10 ; 88.038,-2.7 87.784,-2.7 ; 90.324,3.65 92.356,3.65 ; 91.34,2.634 91.34,4.666 ; 57.384,-2.7 65.004,-2.7 ; 57.384,-2.7 57.384,10 65.004,10 ; 64.984,-2.7 64.984,10 72.604,10 ; 64.984,-2.7 72.604,-2.7 ; 65.004,-2.7 65.004,10 ; 65.004,-2.7 65.004,10 ; 72.584,-2.7 72.584,10 80.204,10 ; 72.584,-2.7 80.204,-2.7 ; 72.604,-2.7 72.604,10 ; 72.604,-2.7 72.604,10 ; 80.184,-2.7 80.184,10 87.804,10 ; 80.184,-2.7 87.804,-2.7 ; 80.204,-2.7 80.204,10 ; 80.204,-2.7 80.204,10 ; 87.784,-2.7 87.784,10 95.404,10 95.404,-2.7 87.784,-2.7 ; 87.804,-2.7 87.804,10 ; 87.804,-2.7 87.804,10 ; -3.81,-2.7 -3.81,10 11.684,10 11.684,-2.7 -3.81,-2.7 ; 11.43,-2.7 26.924,-2.7 26.924,10 11.43,10 11.43,-2.7 ; 26.67,-2.7 42.164,-2.7 42.164,10 26.67,10 26.67,-2.7 ; 41.91,-2.7 41.91,10 57.404,10 57.404,-2.7 41.91,-2.7
3D body "KF7620.STEP": height 12.45, standoff -3.45, extent 87.53,-2.517 95.85,9.883
3D body "KF7620.STEP": height 12.45, standoff -3.45, extent 64.73,-2.517 73.05,9.883
3D body "KF7620.STEP": height 12.45, standoff -3.45, extent 72.35,-2.517 80.67,9.883
3D body "KF7620.STEP": height 12.45, standoff -3.45, extent 79.97,-2.517 88.29,9.883
3D body "KF7620.STEP": height 12.45, standoff -3.45, extent 41.91,-2.517 50.23,9.883
3D body "KF7620.STEP": height 12.45, standoff -3.45, extent 49.53,-2.517 57.85,9.883
3D body "KF7620.STEP": height 12.45, standoff -3.45, extent 57.15,-2.517 65.47,9.883
3D body "KF7620.STEP": height 12.45, standoff -3.45, extent 19.05,-2.517 27.37,9.883
3D body "KF7620.STEP": height 12.45, standoff -3.45, extent 26.67,-2.517 34.99,9.883
3D body "KF7620.STEP": height 12.45, standoff -3.45, extent 34.29,-2.517 42.61,9.883
3D body "KF7620.STEP": height 12.45, standoff -3.45, extent 11.43,-2.517 19.75,9.883
3D body "KF7620.STEP": height 12.45, standoff -3.45, extent 3.81,-2.517 12.13,9.883
3D body "KF7620.STEP": height 12.45, standoff -3.45, extent -3.81,-2.517 4.51,9.883

## KF7620-14P [mm] "61*12*12mm(长宽高)"
pads (14):
  rect 2.5x2.5 hole 1.2: 1(0,0)
  round 2.5 hole 1.2: 2(7.62,0) 3(15.24,0) 4(22.86,0) 5(30.48,0) 6(38.1,0) 7(45.72,0) 8(53.34,0) 9(60.94,0) 10(68.54,0) 11(76.14,0) 12(83.74,0) 13(91.34,0) 14(98.94,0)
Top Overlay:
  circle w0.254: c91.34,3.65 r2.048
  circle w0.254: c83.74,3.65 r2.048
  circle w0.254: c76.14,3.65 r2.048
  circle w0.254: c68.54,3.65 r2.048
  circle w0.254: c60.94,3.65 r2.048
  circle w0.254: c53.34,3.65 r2.048
  circle w0.254: c45.72,3.65 r2.048
  circle w0.254: c30.48,3.65 r2.048
  circle w0.254: c38.1,3.65 r2.048
  circle w0.254: c7.62,3.65 r2.048
  circle w0.254: c0,3.65 r2.048
  circle w0.254: c15.24,3.65 r2.048
  circle w0.254: c22.86,3.65 r2.048
  circle w0.254: c98.94,3.65 r2.048
  lines w0.254: -1.016,3.65 1.016,3.65 ; 0,2.634 0,4.666 ; 3.81,-2.7 3.81,10 ; 4.064,10 4.064,-2.7 4.318,-2.7 ; 6.604,3.65 8.636,3.65 ; 7.62,2.634 7.62,4.666 ; 14.224,3.65 16.256,3.65 ; 15.24,2.634 15.24,4.666 ; 19.05,-2.7 19.05,10 ; 19.304,10 19.304,-2.7 19.558,-2.7 ; 21.844,3.65 23.876,3.65 ; 22.86,2.634 22.86,4.666 ; 29.464,3.65 31.496,3.65 ; 30.48,2.634 30.48,4.666 ; 34.29,-2.7 34.29,10 ; 34.544,10 34.544,-2.7 34.798,-2.7 ; 37.084,3.65 39.116,3.65 ; 38.1,2.634 38.1,4.666 ; 44.704,3.65 46.736,3.65 ; 45.72,2.634 45.72,4.666 ; 49.53,-2.7 49.53,10 ; 49.784,10 49.784,-2.7 50.038,-2.7 ; 52.324,3.65 54.356,3.65 ; 53.34,2.634 53.34,4.666 ; 57.13,-2.7 57.13,10 ; 57.638,-2.7 57.384,-2.7 ; 59.924,3.65 61.956,3.65 ; 60.94,2.634 60.94,4.666 ; 64.73,-2.7 64.73,10 ; 65.238,-2.7 64.984,-2.7 ; 67.524,3.65 69.556,3.65 ; 68.54,2.634 68.54,4.666 ; 72.33,-2.7 72.33,10 ; 72.838,-2.7 72.584,-2.7 ; 75.124,3.65 77.156,3.65 ; 76.14,2.634 76.14,4.666 ; 79.93,-2.7 79.93,10 ; 80.438,-2.7 80.184,-2.7 ; 82.724,3.65 84.756,3.65 ; 83.74,2.634 83.74,4.666 ; 87.53,-2.7 87.53,10 ; 88.038,-2.7 87.784,-2.7 ; 90.324,3.65 92.356,3.65 ; 91.34,2.634 91.34,4.666 ; 95.13,-2.7 95.13,10 ; 95.638,-2.7 95.384,-2.7 ; 97.924,3.65 99.956,3.65 ; 98.94,2.634 98.94,4.666 ; 57.384,-2.7 65.004,-2.7 ; 57.384,-2.7 57.384,10 65.004,10 ; 64.984,-2.7 64.984,10 72.604,10 ; 64.984,-2.7 72.604,-2.7 ; 65.004,-2.7 65.004,10 ; 65.004,-2.7 65.004,10 ; 72.584,-2.7 72.584,10 80.204,10 ; 72.584,-2.7 80.204,-2.7 ; 72.604,-2.7 72.604,10 ; 72.604,-2.7 72.604,10 ; 80.184,-2.7 80.184,10 87.804,10 ; 80.184,-2.7 87.804,-2.7 ; 80.204,-2.7 80.204,10 ; 80.204,-2.7 80.204,10 ; 87.784,-2.7 87.784,10 95.404,10 ; 87.784,-2.7 95.404,-2.7 ; 87.804,-2.7 87.804,10 ; 87.804,-2.7 87.804,10 ; 95.384,-2.7 103.004,-2.7 103.004,10 95.384,10 95.384,-2.7 ; 95.404,-2.7 95.404,10 ; 95.404,-2.7 95.404,10 ; 95.404,-2.7 95.404,10 ; -3.81,-2.7 -3.81,10 11.684,10 11.684,-2.7 -3.81,-2.7 ; 11.43,-2.7 26.924,-2.7 26.924,10 11.43,10 11.43,-2.7 ; 26.67,-2.7 42.164,-2.7 42.164,10 26.67,10 26.67,-2.7 ; 41.91,-2.7 41.91,10 57.404,10 57.404,-2.7 41.91,-2.7
3D body "KF7620.STEP": height 12.45, standoff -3.45, extent 87.53,-2.517 95.85,9.883
3D body "KF7620.STEP": height 12.45, standoff -3.45, extent 95.15,-2.517 103.47,9.883
3D body "KF7620.STEP": height 12.45, standoff -3.45, extent 64.73,-2.517 73.05,9.883
3D body "KF7620.STEP": height 12.45, standoff -3.45, extent 72.35,-2.517 80.67,9.883
3D body "KF7620.STEP": height 12.45, standoff -3.45, extent 79.97,-2.517 88.29,9.883
3D body "KF7620.STEP": height 12.45, standoff -3.45, extent 41.91,-2.517 50.23,9.883
3D body "KF7620.STEP": height 12.45, standoff -3.45, extent 49.53,-2.517 57.85,9.883
3D body "KF7620.STEP": height 12.45, standoff -3.45, extent 57.15,-2.517 65.47,9.883
3D body "KF7620.STEP": height 12.45, standoff -3.45, extent 19.05,-2.517 27.37,9.883
3D body "KF7620.STEP": height 12.45, standoff -3.45, extent 26.67,-2.517 34.99,9.883
3D body "KF7620.STEP": height 12.45, standoff -3.45, extent 34.29,-2.517 42.61,9.883
3D body "KF7620.STEP": height 12.45, standoff -3.45, extent 11.43,-2.517 19.75,9.883
3D body "KF7620.STEP": height 12.45, standoff -3.45, extent 3.81,-2.517 12.13,9.883
3D body "KF7620.STEP": height 12.45, standoff -3.45, extent -3.81,-2.517 4.51,9.883

## KF7620-15P [mm] "61*12*12mm(长宽高)"
pads (15):
  rect 2.5x2.5 hole 1.2: 1(0,0)
  round 2.5 hole 1.2: 2(7.62,0) 3(15.24,0) 4(22.86,0) 5(30.48,0) 6(38.1,0) 7(45.72,0) 8(53.34,0) 9(60.94,0) 10(68.54,0) 11(76.14,0) 12(83.74,0) 13(91.34,0) 14(98.94,0) 15(106.54,0)
Top Overlay:
  circle w0.254: c91.34,3.65 r2.048
  circle w0.254: c83.74,3.65 r2.048
  circle w0.254: c76.14,3.65 r2.048
  circle w0.254: c68.54,3.65 r2.048
  circle w0.254: c60.94,3.65 r2.048
  circle w0.254: c53.34,3.65 r2.048
  circle w0.254: c45.72,3.65 r2.048
  circle w0.254: c30.48,3.65 r2.048
  circle w0.254: c38.1,3.65 r2.048
  circle w0.254: c7.62,3.65 r2.048
  circle w0.254: c0,3.65 r2.048
  circle w0.254: c15.24,3.65 r2.048
  circle w0.254: c22.86,3.65 r2.048
  circle w0.254: c98.94,3.65 r2.048
  circle w0.254: c106.54,3.65 r2.048
  lines w0.254: -1.016,3.65 1.016,3.65 ; 0,2.634 0,4.666 ; 3.81,-2.7 3.81,10 ; 4.064,10 4.064,-2.7 4.318,-2.7 ; 6.604,3.65 8.636,3.65 ; 7.62,2.634 7.62,4.666 ; 14.224,3.65 16.256,3.65 ; 15.24,2.634 15.24,4.666 ; 19.05,-2.7 19.05,10 ; 19.304,10 19.304,-2.7 19.558,-2.7 ; 21.844,3.65 23.876,3.65 ; 22.86,2.634 22.86,4.666 ; 29.464,3.65 31.496,3.65 ; 30.48,2.634 30.48,4.666 ; 34.29,-2.7 34.29,10 ; 34.544,10 34.544,-2.7 34.798,-2.7 ; 37.084,3.65 39.116,3.65 ; 38.1,2.634 38.1,4.666 ; 44.704,3.65 46.736,3.65 ; 45.72,2.634 45.72,4.666 ; 49.53,-2.7 49.53,10 ; 49.784,10 49.784,-2.7 50.038,-2.7 ; 52.324,3.65 54.356,3.65 ; 53.34,2.634 53.34,4.666 ; 57.13,-2.7 57.13,10 ; 57.638,-2.7 57.384,-2.7 ; 59.924,3.65 61.956,3.65 ; 60.94,2.634 60.94,4.666 ; 64.73,-2.7 64.73,10 ; 65.238,-2.7 64.984,-2.7 ; 67.524,3.65 69.556,3.65 ; 68.54,2.634 68.54,4.666 ; 72.33,-2.7 72.33,10 ; 72.838,-2.7 72.584,-2.7 ; 75.124,3.65 77.156,3.65 ; 76.14,2.634 76.14,4.666 ; 79.93,-2.7 79.93,10 ; 80.438,-2.7 80.184,-2.7 ; 82.724,3.65 84.756,3.65 ; 83.74,2.634 83.74,4.666 ; 87.53,-2.7 87.53,10 ; 88.038,-2.7 87.784,-2.7 ; 90.324,3.65 92.356,3.65 ; 91.34,2.634 91.34,4.666 ; 95.13,-2.7 95.13,10 ; 95.638,-2.7 95.384,-2.7 ; 97.924,3.65 99.956,3.65 ; 98.94,2.634 98.94,4.666 ; 102.73,-2.7 102.73,10 ; 103.238,-2.7 102.984,-2.7 ; 105.524,3.65 107.556,3.65 ; 106.54,2.634 106.54,4.666 ; 57.384,-2.7 65.004,-2.7 ; 57.384,-2.7 57.384,10 65.004,10 ; 64.984,-2.7 64.984,10 72.604,10 ; 64.984,-2.7 72.604,-2.7 ; 65.004,-2.7 65.004,10 ; 65.004,-2.7 65.004,10 ; 72.584,-2.7 72.584,10 80.204,10 ; 72.584,-2.7 80.204,-2.7 ; 72.604,-2.7 72.604,10 ; 72.604,-2.7 72.604,10 ; 80.184,-2.7 80.184,10 87.804,10 ; 80.184,-2.7 87.804,-2.7 ; 80.204,-2.7 80.204,10 ; 80.204,-2.7 80.204,10 ; 87.784,-2.7 87.784,10 95.404,10 ; 87.784,-2.7 95.404,-2.7 ; 87.804,-2.7 87.804,10 ; 87.804,-2.7 87.804,10 ; 95.384,-2.7 103.004,-2.7 ; 95.384,-2.7 95.384,10 103.004,10 ; 95.404,-2.7 95.404,10 ; 95.404,-2.7 95.404,10 ; 95.404,-2.7 95.404,10 ; 102.984,-2.7 102.984,10 110.604,10 110.604,-2.7 102.984,-2.7 ; 103.004,-2.7 103.004,10 ; 103.004,-2.7 103.004,10 ; 103.004,-2.7 103.004,10 ; 103.004,-2.7 103.004,10 ; -3.81,-2.7 -3.81,10 11.684,10 11.684,-2.7 -3.81,-2.7 ; 11.43,-2.7 26.924,-2.7 26.924,10 11.43,10 11.43,-2.7 ; 26.67,-2.7 42.164,-2.7 42.164,10 26.67,10 26.67,-2.7 ; 41.91,-2.7 41.91,10 57.404,10 57.404,-2.7 41.91,-2.7
3D body "KF7620.STEP": height 12.45, standoff -3.45, extent 87.53,-2.517 95.85,9.883
3D body "KF7620.STEP": height 12.45, standoff -3.45, extent 95.15,-2.517 103.47,9.883
3D body "KF7620.STEP": height 12.45, standoff -3.45, extent 102.77,-2.517 111.09,9.883
3D body "KF7620.STEP": height 12.45, standoff -3.45, extent 64.73,-2.517 73.05,9.883
3D body "KF7620.STEP": height 12.45, standoff -3.45, extent 72.35,-2.517 80.67,9.883
3D body "KF7620.STEP": height 12.45, standoff -3.45, extent 79.97,-2.517 88.29,9.883
3D body "KF7620.STEP": height 12.45, standoff -3.45, extent 41.91,-2.517 50.23,9.883
3D body "KF7620.STEP": height 12.45, standoff -3.45, extent 49.53,-2.517 57.85,9.883
3D body "KF7620.STEP": height 12.45, standoff -3.45, extent 57.15,-2.517 65.47,9.883
3D body "KF7620.STEP": height 12.45, standoff -3.45, extent 19.05,-2.517 27.37,9.883
3D body "KF7620.STEP": height 12.45, standoff -3.45, extent 26.67,-2.517 34.99,9.883
3D body "KF7620.STEP": height 12.45, standoff -3.45, extent 34.29,-2.517 42.61,9.883
3D body "KF7620.STEP": height 12.45, standoff -3.45, extent 11.43,-2.517 19.75,9.883
3D body "KF7620.STEP": height 12.45, standoff -3.45, extent 3.81,-2.517 12.13,9.883
3D body "KF7620.STEP": height 12.45, standoff -3.45, extent -3.81,-2.517 4.51,9.883